# Altium footprint library GM-802B.PcbLib: 1 footprints
Each footprint in its own frame and in the unit in brackets; x right, y up, seen from the top. Pads: shape width x height; smd on the part's side, far side on the other; paste and mask are expansions set on the pad; w line width, h text height; cw(c..) or ccw(c..) is an arc to the next point about the centre after c.
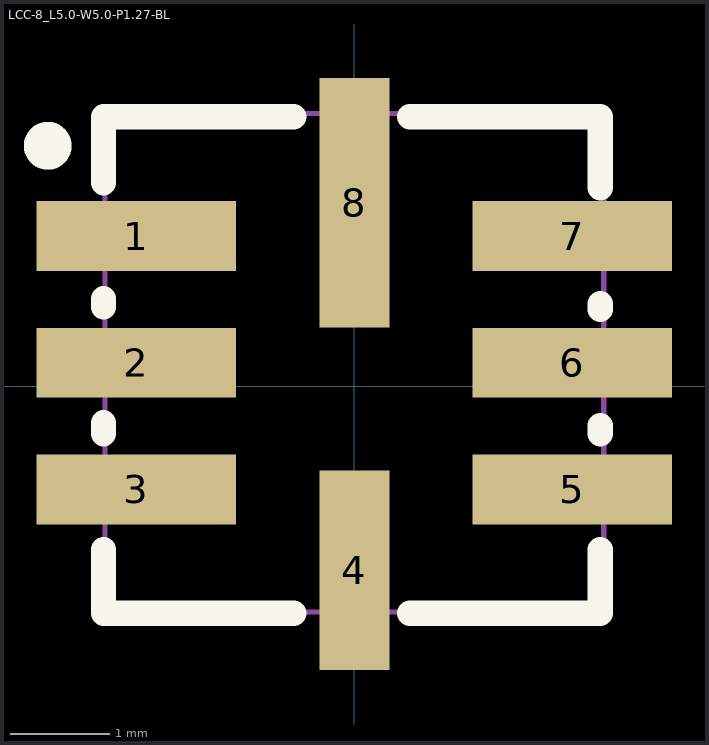
[diagram p0: the footprint, top view; thin cyan lines are the x and y axes]

## LCC-8_L5.0-W5.0-P1.27-BL [mm] "Pin Configuration: / Winsen Electronics /  / Pin 1 (RH1): Heater terminal 1 / winsen-sensor.com /  / Pin 2: Not connected /  / Pin 3 (RH2): Heater terminal 2 /  / Pin 4: Not connected / Winsen Electronics /  / Pin 5 (RS1): Sensor output terminal 1 (signal) /  / Pin 6: Not connected /  / Pin 7 (RS2): Sensor output terminal 2 (signal) /  / Pin 8: Not connected"
pads (8):
  rect 2x0.7 smd: 1(-2.186,1.507) 2(-2.186,0.237) 3(-2.186,-1.033) 5(2.186,-1.033) 6(2.186,0.237) 7(2.186,1.507)
  rect 0.7x2 smd: 4(0,-1.842)
  rect 0.7x2.5 smd: 8(0,1.842)
Top Overlay:
  circle w0.24: c-3.073,2.413 r0.12
  lines w0.254: -2.515,-1.635 -2.515,-2.273 -0.607,-2.273 ; -2.515,-0.473 -2.515,-0.365 ; -2.515,0.797 -2.515,0.879 ; -2.515,2.042 -2.515,2.705 -0.607,2.705 ; 0.556,-2.273 2.464,-2.273 2.464,-1.635 ; 0.556,2.705 2.464,2.705 2.464,1.991 ; 2.464,-0.473 2.464,-0.391 ; 2.464,0.772 2.464,0.829
Mechanical 6:
  circle w0.3: c-2.794,1.52 r0.15
Mechanical 15:
  region: -2.44,2.737 -2.44,2.762 -2.475,2.797 -2.525,2.797 -2.56,2.762 -2.56,2.737 -2.56,2.712 -2.525,2.677 -2.475,2.677 -2.44,2.712
  region: 1.219,-0.715 2.489,-0.715 2.489,-1.35 1.219,-1.35
  region: 1.23,0.555 2.5,0.555 2.5,-0.08 1.23,-0.08
  region: 1.23,1.825 2.5,1.825 2.5,1.19 1.23,1.19
  region: -1.23,1.19 -2.5,1.19 -2.5,1.825 -1.23,1.825
  region: -2.5,0.555 -1.23,0.555 -1.23,-0.08 -2.5,-0.08
  region: -2.5,-0.715 -1.23,-0.715 -1.23,-1.35 -2.5,-1.35
  region: 0.318,-0.993 0.318,-2.263 -0.318,-2.263 -0.318,-0.993
  region: 0.32,2.737 0.32,0.737 -0.32,0.737 -0.32,2.737
  lines w0.051: -2.5,-2.263 2.5,-2.263 2.5,2.737 -2.5,2.737 -2.5,-2.263
3D body "User Library-gm-702b.STEP": height 1.51, standoff -0.01, extent -2.5,-2.373 2.5,2.627